# Altium footprint library 2021-03-09_02-20-10.PcbLib: 1 footprints
Each footprint in its own frame and in the unit in brackets; x right, y up, seen from the top. Pads: shape width x height; smd on the part's side, far side on the other; paste and mask are expansions set on the pad; w line width, h text height; cw(c..) or ccw(c..) is an arc to the next point about the centre after c.
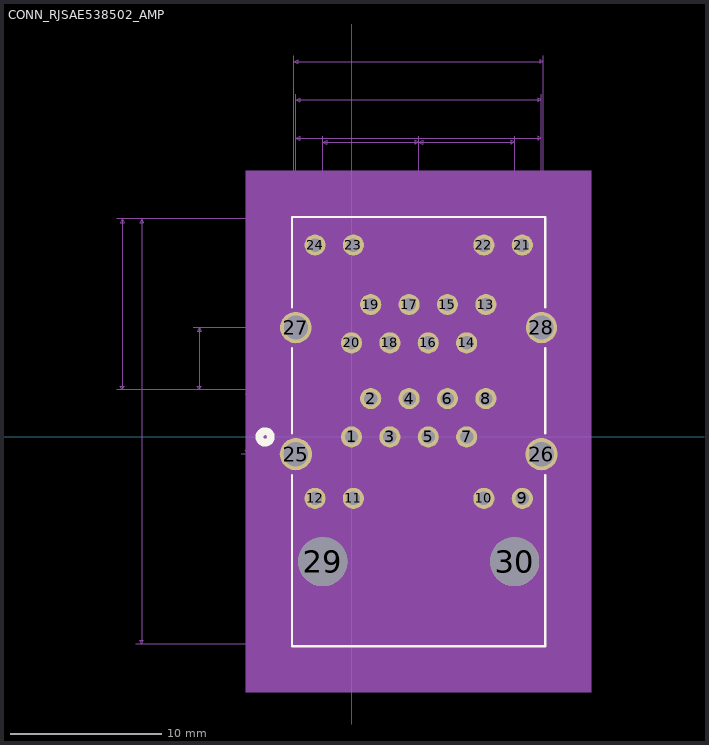
[diagram p0: the footprint, top view; thin cyan lines are the x and y axes]

## CONN_RJSAE538502_AMP [mil]
pads (30):
  round 55 hole 35: 1(0,0) 2(50,100) 3(100,0) 4(150,100) 5(200,0) 6(250,100) 7(300,0) 8(350,100) 9(445,-160) 10(345,-160) 11(5,-160) 12(-95,-160) 13(350,345) 14(300,245) 15(250,345) 16(200,245) 17(150,345) 18(100,245) 19(50,345) 20(0,245) 21(445,500) 22(345,500) 23(5,500) 24(-95,500)
  round 84 hole 64: 25(-145,-45) 26(495,-45)
  round 82 hole 62: 27(-145,285) 28(495,285)
  round 128 hole 128 unplated: 29(-75,-325) 30(425,-325)
Top Overlay:
  circle w20: c-225,0 r15
  lines w6: -155,-99.19 -155,-545 505,-545 505,-99.19 ; -155,9.19 -155,231.83 ; -155,338.17 -155,573 505,573 505,338.17 ; 505,9.19 505,231.83
Bottom Overlay:
  circle w20: c-225,0 r15
Mechanical 5:
  region: -275,693 625,693 625,-665 -275,-665
Mechanical 7:
  lines w1: -612,122.5 175,122.5 ; -612,568 -150,568 ; -562,-540 -150,-540 ; -562,568 -150,568 ; -412,122.5 175,122.5 ; -412,285 495,285 495,793 ; -287,-45 495,-45 495,893 ; -287,122.5 175,122.5 ; -150,993 -150,568 ; -145,-45 -145,893 ; -145,285 -145,793 ; -75,-325 -75,783 ; -50,653 0,653 ; 0,245 615,245 ; 0,668 0,0 615,0 ; 50,0 50,668 ; 100,653 50,653 ; 425,-325 425,783 ; 500,568 500,993 ; -597,122.5 -597,568 ; -597,122.5 -602,132.5 -592,132.5 -597,122.5 ; -597,568 -602,558 -592,558 -597,568 ; -547,-540 -547,568 ; -547,-540 -552,-530 -542,-530 -547,-540 ; -547,568 -552,558 -542,558 -547,568 ; -397,122.5 -397,285 ; -397,122.5 -402,132.5 -392,132.5 -397,122.5 ; -397,285 -402,275 -392,275 -397,285 ; -272,-45 -272,122.5 ; -272,-45 -277,-35 -267,-35 -272,-45 ; -272,122.5 -277,112.5 -267,112.5 -272,122.5 ; -150,978 500,978 ; -150,978 -140,983 -140,973 -150,978 ; -145,778 495,778 ; -145,778 -135,783 -135,773 -145,778 ; -145,878 495,878 ; -145,878 -135,883 -135,873 -145,878 ; -75,768 175,768 ; -75,768 -65,773 -65,763 -75,768 ; 0,653 -10,658 -10,648 0,653 ; 50,653 60,658 60,648 50,653 ; 175,122.5 175,783 175,122.5 ; 175,768 165,773 165,763 175,768 ; 175,768 425,768 ; 175,768 185,773 185,763 175,768 ; 425,768 415,773 415,763 425,768 ; 495,778 485,783 485,773 495,778 ; 495,878 485,883 485,873 495,878 ; 500,978 490,983 490,973 500,978 ; 600,0 600,245 ; 600,0 595,10 605,10 600,0 ; 600,245 595,235 605,235 600,245
  text "Default Padstyle: EX55Y55D35P" at -187.5,-700 h50
  text "1st Mtg Padstyle: EX84Y84D64P" at -187.5,-775 h50
  text "2nd Mtg Padstyle: EX82Y82D62P" at -187.5,-850 h50
  text "3rd Mtg Padstyle: EX55Y55D35P" at -187.5,-925 h50
  text "Left Mtg Padstyle: EX128Y128D128P" at -237.5,-1000 h50
  text "Right Mtg Padstyle: EX128Y128D128P" at -250,-1075 h50
  text "Alt Padstyle 1: OX60Y90D30P" at -162.5,-1150 h50
  text "Alt Padstyle 2: OX90Y60D30P" at -162.5,-1225 h50
  text "0.05in/1.27mm" at -18.75,673 h25
  text "0.64in/16.256mm" at 81.25,798 h25
  text "0.64in/16.256mm" at 81.25,898 h25
  text "0.65in/16.51mm" at 87.5,998 h25
  text "0.245in/6.223mm" at 620,110 h25
  text "-0.168in/-4.254mm" at -504.5,26.25 h25
  text "0.162in/4.128mm" at -604.5,191.25 h25
  text "0.446in/11.316mm" at -817,332.75 h25
  text "1.108in/28.143mm" at -767,1.5 h25
  text "-0.25in/-6.35mm" at -43.75,788 h25
  text "0.25in/6.35mm" at 218.75,788 h25
Mechanical 13:
  circle w20: c0,-75 r15
  lines w1: -150,-540 500,-540 500,568 -150,568 -150,-540
Mechanical 15:
  region: 547,578 -197,578 -197,-550 547,-550
  lines w6: -197,-550 -197,578 547,578 547,-550 -197,-550
3D body: height 10, standoff 0, extent 0,0 10,10